# Altium footprint library SS8050-G.PcbLib: 4 footprints
Each footprint in its own frame and in the unit in brackets; x right, y up, seen from the top. Pads: shape width x height; smd on the part's side, far side on the other; paste and mask are expansions set on the pad; w line width, h text height; cw(c..) or ccw(c..) is an arc to the next point about the centre after c.
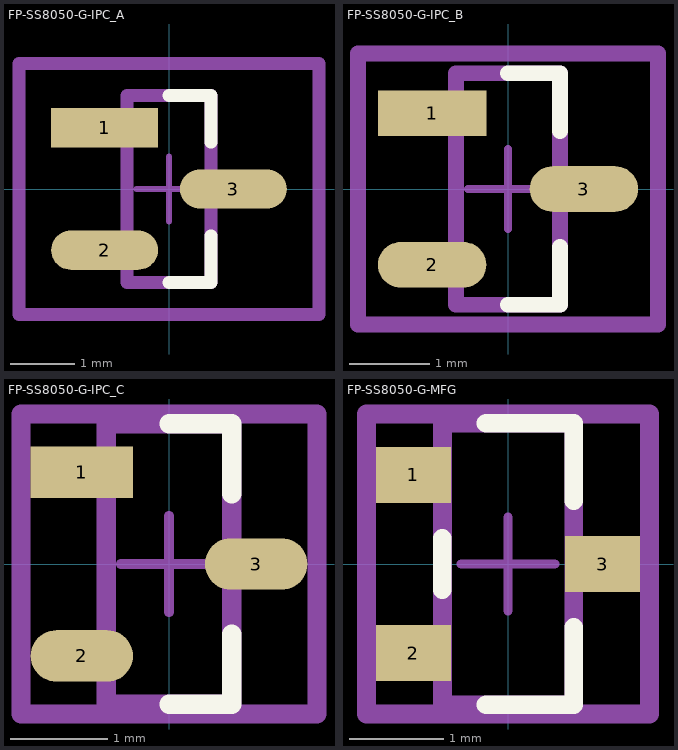
[diagram p0: the footprints below, top view; thin cyan lines are the x and y axes]

## FP-SS8050-G-IPC_A [mm]
pads (3):
  rect 1.657x0.612 smd paste+0 mask+0: 1(-1.001,0.95)
  rrect100% 1.657x0.612 smd paste+0 mask+0: 2(-1.001,-0.95) 3(1.001,0)
Top Overlay:
  lines w0.2: 0,-1.45 0.65,-1.45 0.65,-0.725 ; 0,1.45 0.65,1.45 0.65,0.725
Top Assembly:
  lines w0.2: -2.329,-1.95 2.329,-1.95 2.329,1.95 -2.329,1.95 -2.329,-1.95
  text ".Designator" at 0,0 h1
Top 3D Body:
  lines w0.2: -0.65,-1.45 0.65,-1.45 0.65,1.45 -0.65,1.45 -0.65,-1.45
Top Courtyard:
  lines w0.2: -2.329,-1.95 2.329,-1.95 2.329,1.95 -2.329,1.95 -2.329,-1.95
Top Component Center:
  lines w0.1: -0.5,0 0.5,0 ; 0,-0.5 0,0.5
3D body "Trans_Comchip_SS8050-G_eec.STEP": height 0.25, standoff 0, extent -2.329,-1.95 2.329,1.95

## FP-SS8050-G-IPC_B [mm]
pads (3):
  rect 1.357x0.572 smd paste+0 mask+0: 1(-0.951,0.95)
  rrect100% 1.357x0.572 smd paste+0 mask+0: 2(-0.951,-0.95) 3(0.951,0)
Top Overlay:
  lines w0.2: 0,-1.45 0.65,-1.45 0.65,-0.725 ; 0,1.45 0.65,1.45 0.65,0.725
Top Assembly:
  lines w0.2: -1.879,-1.7 1.879,-1.7 1.879,1.7 -1.879,1.7 -1.879,-1.7
  text ".Designator" at 0,0 h1
Top 3D Body:
  lines w0.2: -0.65,-1.45 0.65,-1.45 0.65,1.45 -0.65,1.45 -0.65,-1.45
Top Courtyard:
  lines w0.2: -1.879,-1.7 1.879,-1.7 1.879,1.7 -1.879,1.7 -1.879,-1.7
Top Component Center:
  lines w0.1: -0.5,0 0.5,0 ; 0,-0.5 0,0.5
3D body "Trans_Comchip_SS8050-G_eec.STEP": height 0.25, standoff 0, extent -1.879,-1.7 1.879,1.7

## FP-SS8050-G-IPC_C [mm]
pads (3):
  rect 1.057x0.532 smd paste+0 mask+0: 1(-0.901,0.95)
  rrect100% 1.057x0.532 smd paste+0 mask+0: 2(-0.901,-0.95) 3(0.901,0)
Top Overlay:
  lines w0.2: 0,-1.45 0.65,-1.45 0.65,-0.725 ; 0,1.45 0.65,1.45 0.65,0.725
Top Assembly:
  lines w0.2: -1.529,-1.55 1.529,-1.55 1.529,1.55 -1.529,1.55 -1.529,-1.55
  text ".Designator" at 0,0 h1
Top 3D Body:
  lines w0.2: -0.65,-1.45 0.65,-1.45 0.65,1.45 -0.65,1.45 -0.65,-1.45
Top Courtyard:
  lines w0.2: -1.529,-1.55 1.529,-1.55 1.529,1.55 -1.529,1.55 -1.529,-1.55
Top Component Center:
  lines w0.1: -0.5,0 0.5,0 ; 0,-0.5 0,0.5
3D body "Trans_Comchip_SS8050-G_eec.STEP": height 0.25, standoff 0, extent -1.529,-1.55 1.529,1.55

## FP-SS8050-G-MFG [mm]
pads (3):
  rect 0.8x0.6 smd paste+0 mask+0: 1(-1.01,0.95) 2(-1.01,-0.95) 3(1.01,0)
Top Overlay:
  lines w0.2: -0.7,-0.275 -0.7,0.275 ; -0.235,-1.5 0.7,-1.5 0.7,-0.675 ; -0.235,1.5 0.7,1.5 0.7,0.675
Top Assembly:
  lines w0.2: -1.51,-1.6 1.51,-1.6 1.51,1.6 -1.51,1.6 -1.51,-1.6
  text ".Designator" at 0,0 h1
Top 3D Body:
  lines w0.2: -0.7,-1.5 0.7,-1.5 0.7,1.5 -0.7,1.5 -0.7,-1.5
Top Courtyard:
  lines w0.2: -1.51,-1.6 1.51,-1.6 1.51,1.6 -1.51,1.6 -1.51,-1.6
Top Component Center:
  lines w0.1: -0.5,0 0.5,0 ; 0,-0.5 0,0.5
3D body "Trans_Comchip_SS8050-G_eec.STEP": height 0.25, standoff 0, extent -1.51,-1.6 1.51,1.6